# EAGLE library part XA08 (library connectors)
Connector 8 pins, alternating
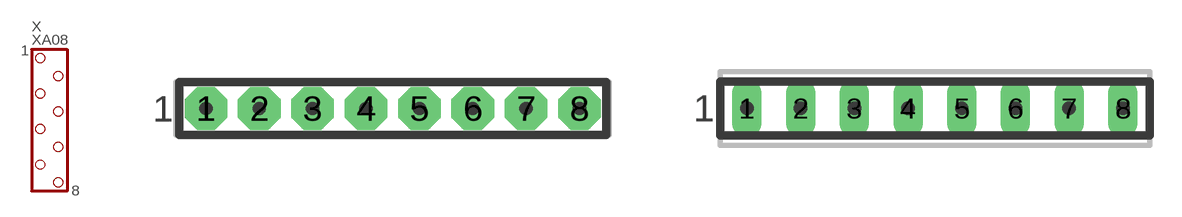
[diagram p12: symbol with the pads of X08N-SIL; footprints X08N-SIL, X08L-SIL]

Designator prefix X

## XA08N  [X08N-SIL]
1  1
2  2
3  3
4  4
5  5
6  6
7  7
8  8

## XA08L  [X08L-SIL]
Pads as for X08N-SIL

## XA08R  [X08R-SIL]
Pads as for X08N-SIL

## XA08I  [X08N-IDC]
Pads as for X08N-SIL

## XA08IR  [X08R-IDC]
Pads as for X08N-SIL

## XA08D  [X08N-DIL]
Pads as for X08N-SIL

## XA08DR  [X08R-DIL]
Pads as for X08N-SIL

## XA08  [X08N-IDC]
Pads as for X08N-SIL

## Footprint X08N-SIL (pad centres in mm)
Connector 8 pins, SIL
drill 0.889 pad 2.032 octagon: 1 -8.89,0; 2 -6.35,0; 3 -3.81,0; 4 -1.27,0; 5 1.27,0; 6 3.81,0; 7 6.35,0; 8 8.89,0

## Footprint X08L-SIL (pad centres in mm)
Connector 8 pins, SIL, long pads
drill 0.889 pad 1.397 long: 1 -8.89,0; 2 -6.35,0; 3 -3.81,0; 4 -1.27,0; 5 1.27,0; 6 3.81,0; 7 6.35,0; 8 8.89,0

## Footprint X08R-SIL (pad centres in mm)
Connector 8 pins, SIL, reduced pads
drill 0.889 pad 1.397 square: 1 -8.89,0; 2 -6.35,0; 3 -3.81,0; 4 -1.27,0; 5 1.27,0; 6 3.81,0; 7 6.35,0; 8 8.89,0

## Footprint X08N-IDC (pad centres in mm)
Connector 8 pins, IDC
drill 0.889 pad 2.032 octagon: 1 -3.81,-1.27; 2 -3.81,1.27; 3 -1.27,-1.27; 4 -1.27,1.27; 5 1.27,-1.27; 6 1.27,1.27; 7 3.81,-1.27; 8 3.81,1.27

## Footprint X08R-IDC (pad centres in mm)
Connector 8 pins, IDC, reduced pads
drill 0.889 pad 1.397 square: 1 -3.81,-1.27; 2 -3.81,1.27; 3 -1.27,-1.27; 4 -1.27,1.27; 5 1.27,-1.27; 6 1.27,1.27; 7 3.81,-1.27; 8 3.81,1.27

## Footprint X08N-DIL (pad centres in mm)
Connector 8 pins, DIL
drill 0.889 pad 2.032 octagon: 1 -3.81,-1.27; 2 -3.81,1.27; 3 -1.27,-1.27; 4 -1.27,1.27; 5 1.27,-1.27; 6 1.27,1.27; 7 3.81,-1.27; 8 3.81,1.27

## Footprint X08R-DIL (pad centres in mm)
Connector 8 pins, DIL, reduced pads
drill 0.889 pad 1.397 square: 1 -3.81,-1.27; 2 -3.81,1.27; 3 -1.27,-1.27; 4 -1.27,1.27; 5 1.27,-1.27; 6 1.27,1.27; 7 3.81,-1.27; 8 3.81,1.27